# EAGLE library part 74LVC1G11 (library Public)
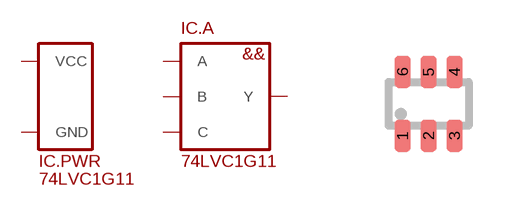
[diagram p96: symbol with the pads of SOT363; footprint SOT363]

Designator prefix IC; gates .PWR=SUPPLY_VCC/GND .A=AND_3

## 74LVC1G11  [SOT363]
1  .A:A
2  .PWR:GND
3  .A:B
4  .A:Y
5  .PWR:VCC
6  .A:C

## Footprint SOT363 (pad centres in mm)
SOT363 SC70-6 SC88 TSSOP-6 UMT6 US6 S-Mini6
smd 0.4 x 0.8: 1 -0.65,-0.8; 2 0,-0.8; 3 0.65,-0.8; 4 0.65,0.8; 5 0,0.8; 6 -0.65,0.8